# Altium schematic symbol library ISOLATOR.SchLib: 2 symbols
Pins are listed as number, name and electrical type; pins without a type are passive.

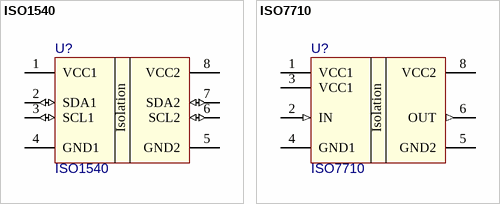
[diagram p0: symbols ISO1540 to ISO7710]

## ISO1540
designator U?
Low-Power Bidirectional I2C Isolators; value: ISO1540
footprint SO-8_L (Footprint not found)
pins: 1 VCC1 (power), 2 SDA1 (io), 3 SCL1 (io), 4 GND1 (power), 5 GND2 (power), 6 SCL2 (io), 7 SDA2 (io), 8 VCC2 (power)
text: Isolation

## ISO7710
designator U?
High Speed, Robust EMC Reinforced Single-Channel Digital Isolator; value: ISO7710; ComponentLink1Description: Datasheet; ComponentLink1URL: https://www.ti.com/lit/ds/symlink/iso7710-q1.pdf
footprint SO-8_L (Footprint not found)
pins: 1 VCC1 (power), 2 IN (in), 3 VCC1 (power), 4 GND1 (power), 5 GND2 (power), 6 OUT (out), 8 VCC2 (power)
text: Isolation